# EAGLE library part OPT301M (library untitled)
This is the Burr-Brown OPT-301M integrated photodiode and amplifier
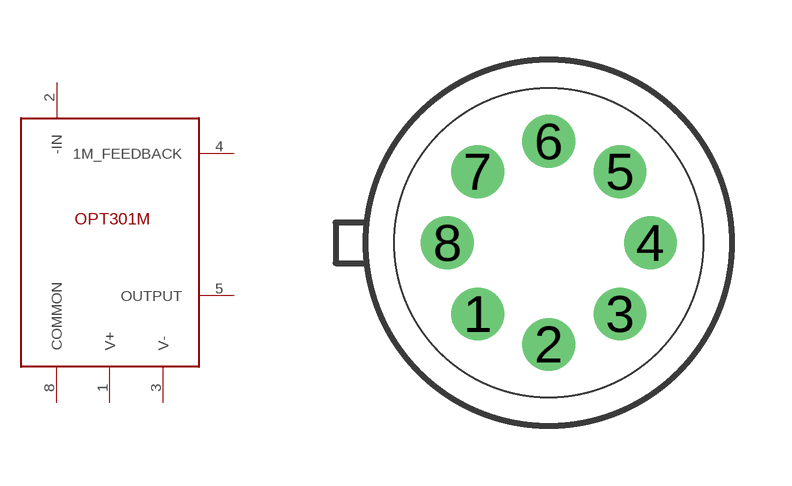
[diagram p0: symbol with the pads of TO-99; footprint TO-99]

Designator prefix -

## OPT301M  [TO-99]
1  V+
2  -IN
3  V-
4  1M_FEEDBACK
5  OUTPUT
8  COMMON

## Footprint TO-99 (pad centres in mm)
TO-99 metal can with glass window
drill 0.813 round: 1 -1.778,-1.778; 2 0,-2.54; 3 1.778,-1.778; 4 2.54,0; 5 1.778,1.778; 6 0,2.54; 7 -1.778,1.778; 8 -2.54,0